# Altium footprint library 28pins_arduino_pcb_lib.PcbLib: 27 footprints (part 1 of 2)
Each footprint in its own frame and in the unit in brackets; x right, y up, seen from the top. Pads: shape width x height; smd on the part's side, far side on the other; paste and mask are expansions set on the pad; w line width, h text height; cw(c..) or ccw(c..) is an arc to the next point about the centre after c.
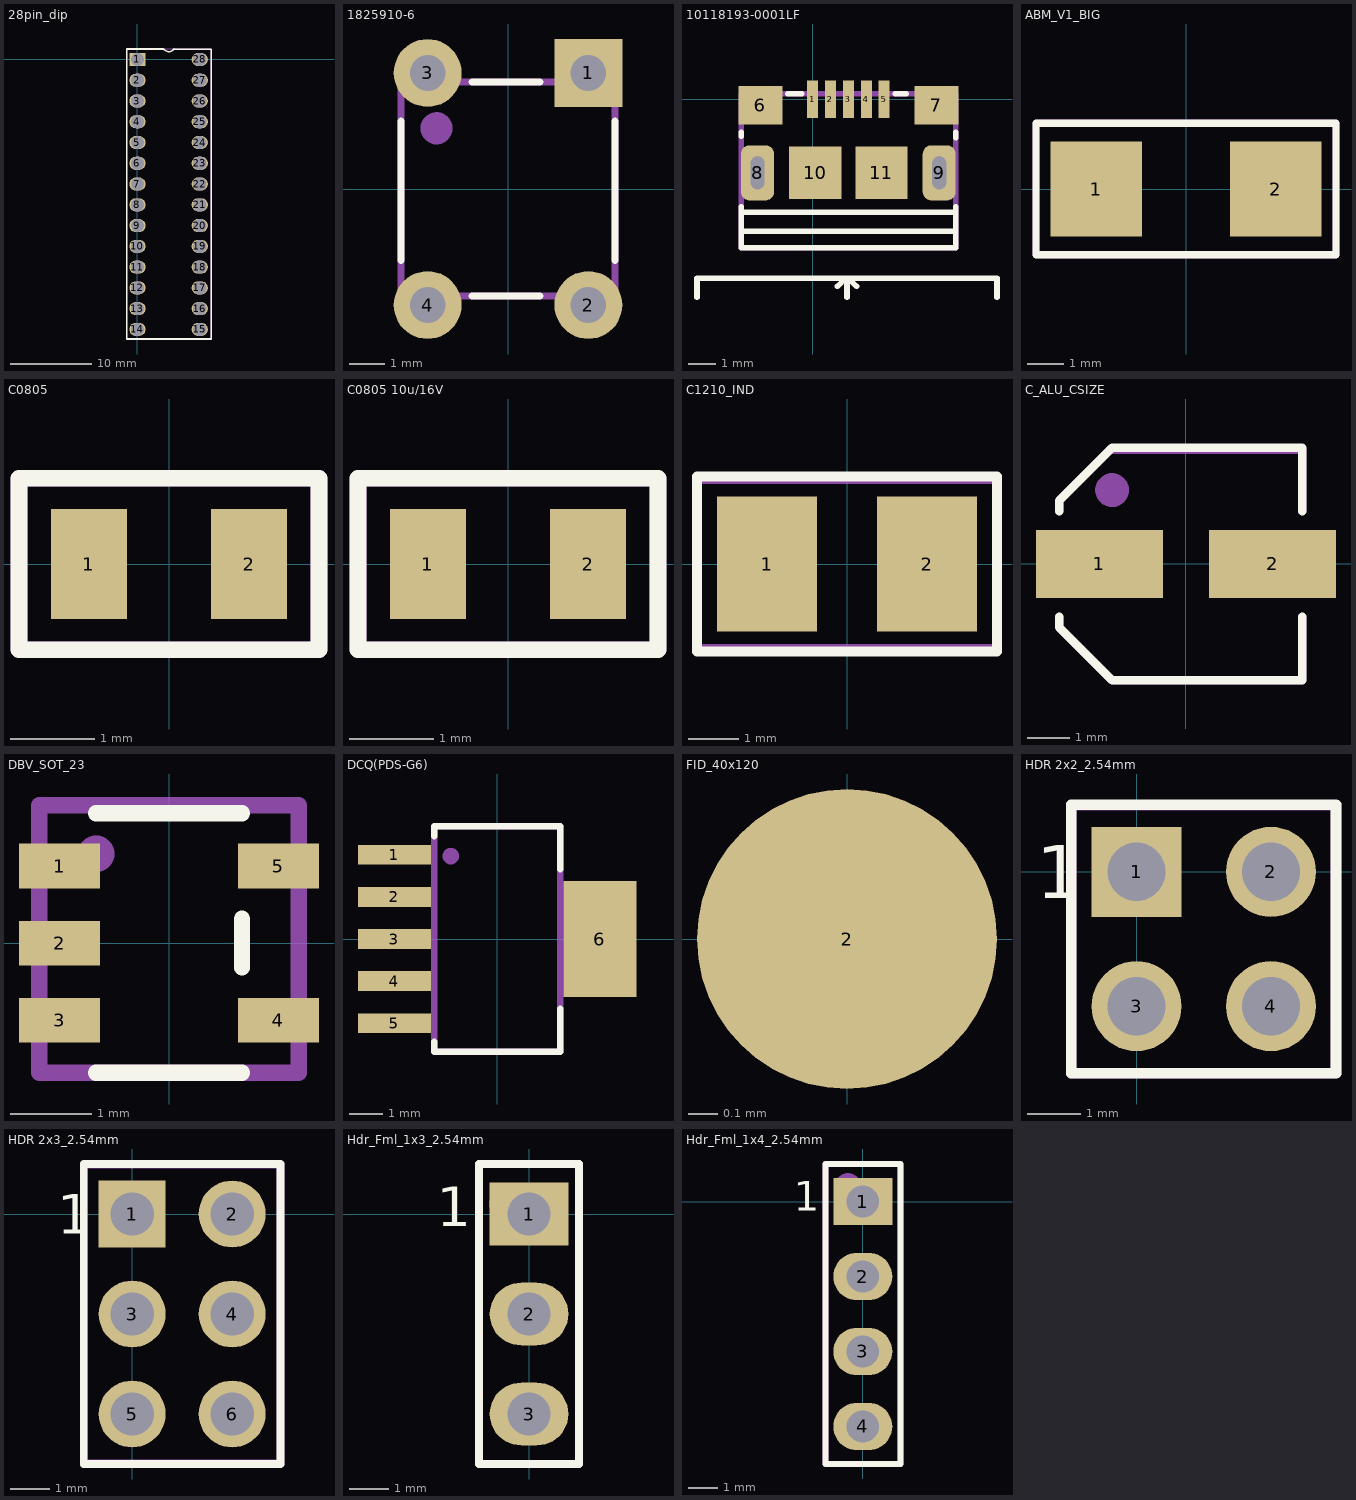
[diagram p0: the footprints below, top view; thin cyan lines are the x and y axes]

## 28 DIP 7.62mm SCKT [mm]
3D body "dil_socket.stp": height 4, standoff -3.37, extent -1.24,-34.26 8.86,1.24

## 28pin_dip [mm]
pads (28):
  rect 2x1.6 hole 1.6: 1(0,0)
  oval 2x1.6 hole 1.6: 2(0,-2.54) 3(0,-5.08) 4(0,-7.62) 5(0,-10.16) 6(0,-12.7) 7(0,-15.24) 8(0,-17.78) 9(0,-20.32) 10(0,-22.86) 11(0,-25.4) 12(0,-27.94) 13(0,-30.48) 14(0,-33.02) 15(7.62,-33.02) 16(7.62,-30.48) 17(7.62,-27.94) 18(7.62,-25.4) 19(7.62,-22.86) 20(7.62,-20.32) 21(7.62,-17.78) 22(7.62,-15.24) 23(7.62,-12.7) 24(7.62,-10.16) 25(7.62,-7.62) 26(7.62,-5.08) 27(7.62,-2.54) 28(7.62,0)
Top Overlay:
  lines w0.2: 3.175,1.29 -1.29,1.29 -1.29,-34.2 9.01,-34.2 9.01,1.27 4.445,1.27 ; 3.21,1.29 ccw(c3.845,1.732) 4.48,1.29
Mechanical 1:
  circle w0.5: c-0.09,-0.01 r0.412
Top Mechanical 29/Mechanical 30 (Mech29):
  circle w0.5: c0.01,0.09 r0.283
  lines w0.1: -1.29,-34.2 9.01,-34.2 9.01,1.29 -1.29,1.29 -1.29,-34.2
  text "'.Designator'" at 4.711,-22.11 h3
3D body "User Library-DIP-28P-M04.STEP": height 7.7, standoff -0.5, extent 0.01,-34.11 7.88,1.29

## 1825910-6 [mm]
pads (4):
  rect 1.9x1.9 hole 1: 1(2.25,3.25)
  round 1.9 hole 1: 2(2.25,-3.25) 3(-2.25,3.25) 4(-2.25,-3.25)
Top Overlay:
  lines w0.2: -3,-2 -3,1.9 ; -1,-3 0.9,-3 ; -1,3 0.9,3 ; 3,-2 3,1.9
Top Mechanical 29/Mechanical 30 (Mech29):
  circle w0.5: c-2,1.7 r0.2
  lines w0.2: -3,-3 3,-3 3,3 -3,3 -3,-3
  text "'.Designator'" at -0.8,-1.4 h1.2
3D body "User Library-FSM4JLH(1825910-5).STEP": height 5, standoff -3.51, extent -2.995,-3.898 2.995,3.9

## 10118193-0001LF [mm]
pads (11):
  rect 0.4x1.35 smd mask+0.05: 1(0,0) 2(0.65,0) 3(1.3,0) 4(1.95,0) 5(2.6,0)
  rect 1.6x1.4 smd: 6(-1.9,-0.22) 7(4.5,-0.225)
  rrect50% 1.2x2 hole 0.5 slot 1.2 at 90 deg: 8(-2,-2.675) 9(4.6,-2.675)
  rect 1.9x1.9 smd: 10(0.1,-2.675) 11(2.5,-2.675)
Top Overlay:
  lines w0.2: -4.2,-7.2 -4.2,-6.75 ; -4.2,-7 -4.2,-6.5 6.7,-6.5 6.7,-7 6.7,-7.2 ; -2.6,-4.8 5.2,-4.8 ; -2.6,-4.1 5.2,-4.1 ; -2.6,-3.9 -2.6,-5.4 5.2,-5.4 5.2,-3.9 ; -2.6,-1.35 -2.6,-1.2 ; -0.9,0.2 -0.4,0.2 ; 0.9,-6.8 1.2,-6.5 1.25,-6.5 ; 1.25,-7.2 1.25,-6.95 1.25,-6.5 ; 1.6,-6.8 1.35,-6.55 1.25,-6.55 1.25,-6.5 ; 3,0.2 3.4,0.2 ; 5.2,-1.4 5.2,-1.2
Top Mechanical 29/Mechanical 30 (Mech29):
  lines w0.2: -2.6,-5.4 -2.6,0.2 5.2,0.2 5.2,-5.4 -2.6,-5.4
  text "'.Designator'" at -1.57,-4.77 h1.2
3D body "10118193-0001lfc.stp": height 2.83, standoff -0.77, extent -2.628,-5.46 5.228,0.2

## ABM_V1_BIG [mm]
pads (2):
  rect 2.5x2.6 smd: 1(-2.45,0) 2(2.45,0)
Top Overlay:
  lines w0.2: -4.1,-1.8 -4.1,1.8 4.1,1.8 4.1,-1.8 -4.1,-1.8
Top Mechanical 29/Mechanical 30 (Mech29):
  lines w0.2: -4.1,-1.8 -4.1,1.8 4.1,1.8 4.1,-1.8 -4.1,-1.8
  text "'.Designator'" at -1.4,-1.4 h1.2
3D body "User Library-ABM7.STEP": height 1.44, standoff 0, extent -3.05,-1.75 3.05,1.75

## C0805 [mm]
pads (2):
  rect 0.9x1.3 smd: 1(-0.95,0) 2(0.95,0)
Top Overlay:
  lines w0.2: -1.778,-1.016 1.778,-1.016 1.778,1.016 -1.778,1.016 -1.778,-1.016
Top Mechanical 29/Mechanical 30 (Mech29):
  lines w0.2: -1.778,-1.016 -1.778,1.016 1.778,1.016 1.778,-1.016 -1.778,-1.016
  text "'.Designator'" at -1.424,-0.462 h0.6
3D body "CAPC2012X94N EIA 0805.step": height 0.95, standoff 0.01, extent -1,-0.6 1,0.6

## C0805 10u/16V [mm]
pads (2):
  rect 0.9x1.3 smd: 1(-0.95,0) 2(0.95,0)
Top Overlay:
  lines w0.2: -1.778,-1.016 -1.778,1.016 1.778,1.016 1.778,-1.016 -1.778,-1.016
Top Mechanical 29/Mechanical 30 (Mech29):
  lines w0.2: -1.778,-1.016 1.778,-1.016 1.778,1.016 -1.778,1.016 -1.778,-1.016
  text "'.Designator'" at -1.424,-0.462 h0.6
3D body "CAPC2012X94N EIA 0805.step": height 0.95, standoff 0.01, extent -1,-0.6 1,0.6
3D body "CAPC2012X94N EIA 0805.step": height 1.44, standoff 0.5, extent -1,-0.6 1,0.6

## C1210_IND [mm]
pads (2):
  rect 2x2.7 smd: 1(-1.6,0) 2(1.6,0)
Top Overlay:
  lines w0.2: -3,-1.75 3,-1.75 3,1.75 -3,1.75 -3,-1.75
Top Mechanical 29/Mechanical 30 (Mech29):
  lines w0.2: -3,-1.7 -3,1.7 3,1.7 3,-1.7 -3,-1.7
  text "'.Designator'" at -1.65,-0.917 h1
3D body: height 2.7, standoff -0.01, extent -1.6,-1 -1.2,1
3D body: height 2.7, standoff -0.01, extent 1.2,-1 1.6,1
3D body: height 2.7, standoff -0.01, extent -1.2,-1 1.2,1

## C_ALU_CSIZE [mm]
pads (2):
  rect 3x1.6 smd: 1(-2.05,0) 2(2.05,0)
Top Overlay:
  lines w0.2: -3,-1.25 -3,-1.5 -1.75,-2.75 2.75,-2.75 2.75,-2.25 2.75,-1.25 ; -3,1.25 -3,1.5 -1.75,2.75 2.75,2.75 2.75,1.25
Top Mechanical 29/Mechanical 30 (Mech29):
  circle w0.4: c-1.75,1.75 r0.2
  lines w0.2: -3,-1.25 -3,-1.5 -1.75,-2.75 2.75,-2.75 2.75,-1.25 ; -3,1.25 -3,1.5 -1.8,2.7 2.75,2.7 2.75,1.25
  text "'.Designator'" at -1.35,-2.183 h1.25
3D body "User Library-capacitor size C.STEP": height 5.41, standoff -0.01, extent -2.95,-2.65 2.95,2.65

## DBV_SOT_23 [mm]
pads (5):
  rect 1x0.55 smd: 1(-1.35,0.95) 2(-1.35,0) 3(-1.35,-0.95) 4(1.35,-0.95) 5(1.35,0.95)
Top Overlay:
  lines w0.2: -0.9,-1.6 0.9,-1.6 ; -0.9,1.6 0.9,1.6 ; 0.9,-0.3 0.9,0.3
Top Mechanical 29/Mechanical 30 (Mech29):
  circle w0.254: c-0.9,1.1 r0.1
  lines w0.2: -1.6,-1.6 1.6,-1.6 1.6,1.7 -1.6,1.7 -1.6,-1.6
  text "'.Designator'" at -0.5,-0.65 h0.6
3D body "User Library-TPS79333DBVR.STEP": height 1.6, standoff -0.02, extent -1.514,-1.525 1.513,1.525

## DCQ(PDS-G6) [mm]
pads (6):
  rect 2.2x0.6 smd: 1(-3.1,2.54) 2(-3.1,1.27) 3(-3.1,0) 4(-3.1,-1.27) 5(-3.1,-2.54)
  rect 2.2x3.5 smd: 6(3.1,0)
Top Overlay:
  lines w0.2: -1.9,-3.1 -1.9,-3.4 1.9,-3.4 1.9,-2.1 ; -1.9,3.1 -1.9,3.2 -1.9,3.4 1.9,3.4 1.9,2.1
Top Mechanical 29/Mechanical 30 (Mech29):
  circle w0.3: c-1.4,2.5 r0.1
  lines w0.2: -1.9,-3.4 1.9,-3.4 1.9,3.4 -1.9,3.4 -1.9,-3.4
  text "'.Designator'" at 1.17,-2.87 h1.2
3D body "User Library-TPS73701DCQ.STEP": height 1.79, standoff -0.01, extent -3.93,-3.275 3.33,3.275

## FID_40x120 [mil]
pads (1):
  round 40 smd paste-40 mask+40: 2(0,0)

## HDR 2x2_2.54mm [mm]
pads (4):
  rect 1.7x1.7 hole 1.1: 1(0,0)
  round 1.7 hole 1.1: 2(2.54,0) 3(0,-2.54) 4(2.54,-2.54)
Top Overlay:
  lines w0.2: 0.635,1.27 3.77,1.27 3.77,-3.81 -1.23,-3.81 -1.23,1.27 1.905,1.27
  text "1" at -1.9,-0.5 h1
Top Mechanical 29/Mechanical 30 (Mech29):
  circle w0.508: c0,0 r0.254
  lines w0.2: -1.23,-3.81 -1.23,1.26 3.77,1.26 3.77,-3.81 -1.23,-3.81
  text "'.Designator'" at 2.194,-2.086 h1.2
3D body "961204-6404-XX.stp": height 8.01, standoff -3.29, extent -1.27,-3.74 3.81,1.26

## HDR 2x3_2.54mm [mm]
pads (6):
  rect 1.7x1.7 hole 1.1: 1(0,0)
  round 1.7 hole 1.1: 2(2.54,0) 3(0,-2.54) 4(2.54,-2.54) 5(0,-5.08) 6(2.54,-5.08)
Top Overlay:
  lines w0.2: 0.635,1.27 3.77,1.27 3.77,-6.35 -1.23,-6.35 -1.23,1.27 1.905,1.27
  text "1" at -1.9,-0.5 h1
Top Mechanical 29/Mechanical 30 (Mech29):
  circle w0.508: c0,0 r0.254
  lines w0.2: -1.23,-6.34 -1.23,1.26 3.77,1.26 3.77,-6.34 -1.23,-6.34
  text "'.Designator'" at 2.57,-4.04 h1.2
3D body "961206-6404-XX.stp": height 8.01, standoff -3.29, extent -1.23,-6.35 3.77,1.27

## Hdr_Fml_1x3_2.54mm [mm]
pads (3):
  rect 2x1.6 hole 1.1: 1(0,0)
  oval 2x1.6 hole 1.1: 2(0,-2.54) 3(0,-5.08)
Top Overlay:
  lines w0.2: -1.27,-6.35 -1.27,1.27 1.27,1.27 1.27,-6.35 -1.27,-6.35
  text "1" at -2.34,-0.308 h1
Top Mechanical 29/Mechanical 30 (Mech29):
  circle w0.508: c-0.562,0.254 r0.2
  lines w0.2: -1.27,-6.35 -1.27,1.27 1.27,1.27 1.27,-6.35 -1.27,-6.35
  text "'.Designator'" at 0.846,-6.346 h1.5
3D body "HDR_1x3_White.stp": height 8.4, standoff -3.1, extent -1.14,-6.148 1.27,1.072

## Hdr_Fml_1x4_2.54mm [mm]
pads (4):
  rect 2x1.6 hole 1.1: 1(0,0)
  oval 2x1.6 hole 1.1: 2(0,-2.54) 3(0,-5.08) 4(0,-7.62)
Top Overlay:
  lines w0.2: -1.27,-8.89 -1.27,1.27 1.27,1.27 1.27,-8.89 -1.27,-8.89
  text "1" at -2.34,-0.308 h1
Top Mechanical 29/Mechanical 30 (Mech29):
  circle w0.5: c-0.508,0.508 r0.2
  lines w0.2: -1.27,-8.89 -1.27,1.27 1.27,1.27 1.27,-8.89 -1.27,-8.89
  text "'.Designator'" at 0.77,-7.112 h1.5
3D body "HDR_1x4_White.stp": height 8.39, standoff -3.11, extent -1.205,-8.69 1.205,1.07